# Altium footprint library Crystal.PcbLib: 185 footprints (part 12 of 12)
Each footprint in its own frame and in the unit in brackets; x right, y up, seen from the top. Pads: shape width x height; smd on the part's side, far side on the other; paste and mask are expansions set on the pad; w line width, h text height; cw(c..) or ccw(c..) is an arc to the next point about the centre after c.
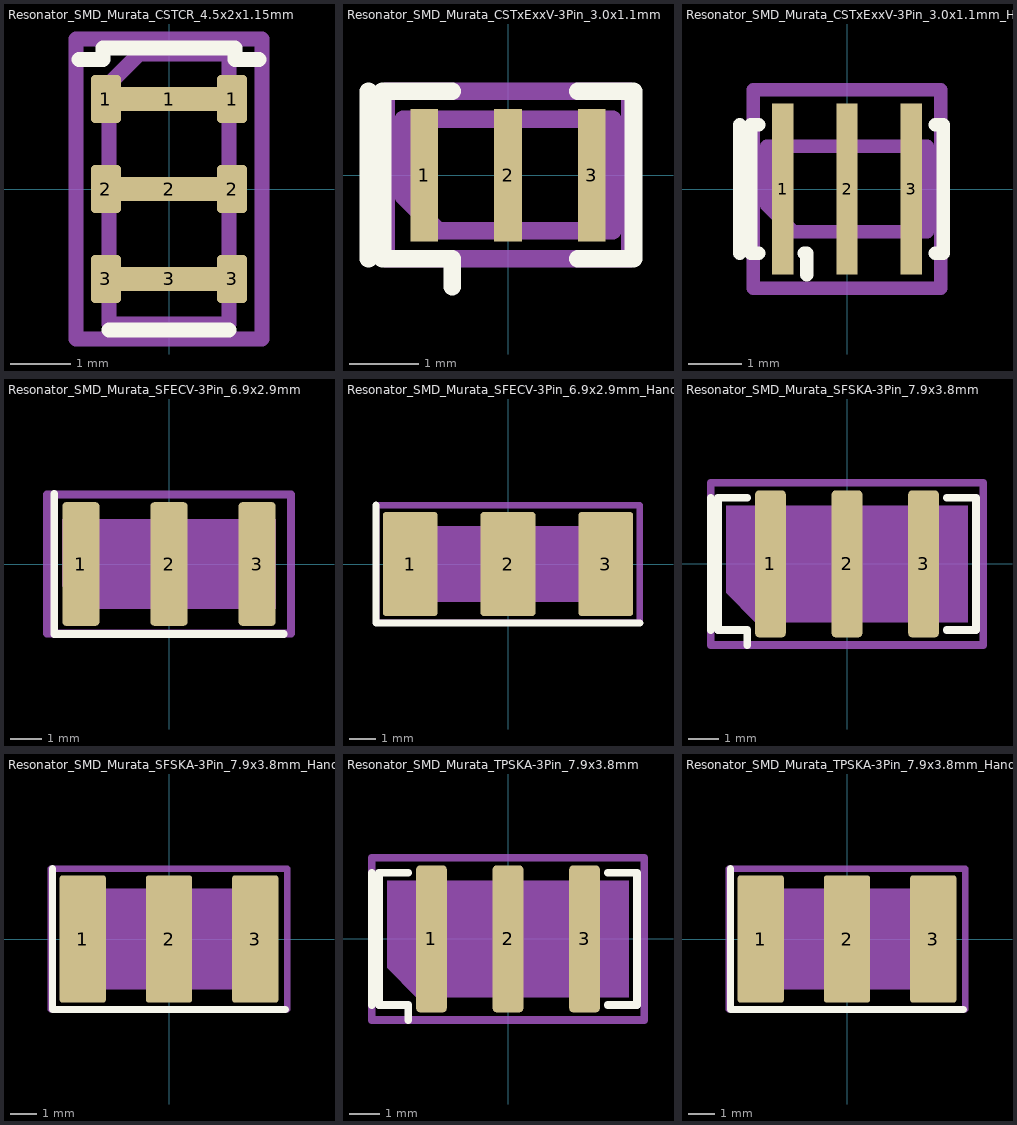
[diagram p11: the footprints below, top view; thin cyan lines are the x and y axes]

## Resonator_SMD_Murata_CSTCR_4.5x2x1.15mm [mm]
pads (9):
  rrect25% 0.5x0.8 smd: 1(-1.05,1.5) 1(1.05,1.5) 2(-1.05,0) 2(1.05,0) 3(-1.05,-1.5) 3(1.05,-1.5)
  rect 1.7x0.4 smd: 1(0,1.5) 2(0,0) 3(0,-1.5)
F.SilkS:
  lines w0.254: -1.5,2.16 -1.1,2.16 -1.1,2.35 1.1,2.35 1.1,2.16 1.5,2.16 ; -1,-2.35 1,-2.35
Top Assembly:
  lines w0.254: -1,-2.25 1,-2.25 1,2.25 -0.5,2.25 -1,1.75 -1,-2.25
  text "'.Designator'" at 0.84,-4.047 h1
Top Courtyard:
  lines w0.254: -1.55,-2.5 1.55,-2.5 1.55,2.5 -1.55,2.5 -1.55,-2.5
Top Designator:
  text ".Designator" at -7.618,-0.658 h1.52

## Resonator_SMD_Murata_CSTxExxV-3Pin_3.0x1.1mm [mm]
pads (3):
  rect 0.4x1.9 smd: 1(-1.2,0) 2(0,0) 3(1.2,0)
F.SilkS:
  lines w0.254: -2,-1.2 -2,-0.8 -2,1.2 ; -0.8,-1.6 -0.8,-1.2 -1.8,-1.2 -1.8,-0.8 -1.8,1.2 -0.8,1.2 ; 1,-1.2 1.8,-1.2 1.8,-0.8 1.8,1.2 1,1.2
Top Assembly:
  lines w0.254: -1.5,-0.3 -1,-0.8 1.5,-0.8 1.5,0.8 -1.5,0.8 -1.5,-0.3
  text "'.Designator'" at -2.318,-0.444 h0.6
Top Courtyard:
  lines w0.254: -1.75,-1.2 1.75,-1.2 1.75,1.2 -1.75,1.2 -1.75,-1.2
Top Designator:
  text ".Designator" at -7.598,-0.708 h1.52

## Resonator_SMD_Murata_CSTxExxV-3Pin_3.0x1.1mm_HandSoldering [mm]
pads (3):
  rect 0.4x3.2 smd: 1(-1.2,0) 2(0,0) 3(1.2,0)
F.SilkS:
  lines w0.254: -2,-1.2 -2,-0.8 -2,1.2 ; -1.65,-1.2 -1.8,-1.2 -1.8,-0.8 -1.8,1.2 -1.65,1.2 ; -0.8,-1.2 -0.75,-1.2 -0.75,-1.6 ; 1.65,-1.2 1.8,-1.2 1.8,-0.8 1.8,1.2 1.65,1.2
Top Assembly:
  lines w0.254: -1.5,-0.3 -1,-0.8 1.5,-0.8 1.5,0.8 -1.5,0.8 -1.5,-0.3
  text "'.Designator'" at -2.318,-0.444 h0.6
Top Courtyard:
  lines w0.254: -1.75,-1.85 1.75,-1.85 1.75,1.85 -1.75,1.85 -1.75,-1.85
Top Designator:
  text ".Designator" at -7.598,-0.508 h1.52

## Resonator_SMD_Murata_SFECV-3Pin_6.9x2.9mm [mm]
pads (3):
  rrect21% 1.2x4 smd: 1(-2.85,0) 2(0,0) 3(2.85,0)
F.SilkS:
  lines w0.254: -3.71,2.26 -3.71,-2.26 3.71,-2.26
Top Assembly:
  region: 3.45,-1.45 -2.725,-1.45 -3.45,-0.725 -3.45,1.45 3.45,1.45
  text "'.Designator'" at -4.047,-0.84 h1
Top Courtyard:
  lines w0.254: -3.95,-2.25 3.95,-2.25 3.95,2.25 -3.95,2.25 -3.95,-2.25
Top Designator:
  text ".Designator" at -7.677,-0.508 h1.52

## Resonator_SMD_Murata_SFECV-3Pin_6.9x2.9mm_HandSoldering [mm]
pads (3):
  rrect12% 2.1x4 smd: 1(-3.75,0) 2(0,0) 3(3.75,0)
F.SilkS:
  lines w0.254: -5.06,2.26 -5.06,-2.26 5.06,-2.26
Top Assembly:
  region: 3.45,-1.45 -2.725,-1.45 -3.45,-0.725 -3.45,1.45 3.45,1.45
  text "'.Designator'" at -4.047,-0.84 h1
Top Courtyard:
  lines w0.254: -5.05,-2.25 5.05,-2.25 5.05,2.25 -5.05,2.25 -5.05,-2.25
Top Designator:
  text ".Designator" at -7.618,-0.508 h1.52

## Resonator_SMD_Murata_SFSKA-3Pin_7.9x3.8mm [mm]
pads (3):
  rrect25% 1x4.8 smd: 1(-2.5,0) 2(0,0) 3(2.5,0)
F.SilkS:
  lines w0.254: -4.45,-2.16 -4.45,2.16 ; -3.26,-2.66 -3.26,-2.16 -4.21,-2.16 -4.21,2.16 -3.26,2.16 ; 3.26,-2.16 4.21,-2.16 4.21,2.16 3.26,2.16
Top Assembly:
  region: 3.95,-1.9 -3,-1.9 -3.95,-0.95 -3.95,1.9 3.95,1.9
  text "'.Designator'" at -4.047,-0.84 h1
Top Courtyard:
  lines w0.254: -4.45,-2.65 4.45,-2.65 4.45,2.65 -4.45,2.65 -4.45,-2.65
Top Designator:
  text ".Designator" at -7.618,-0.513 h1.52

## Resonator_SMD_Murata_SFSKA-3Pin_7.9x3.8mm_HandSoldering [mm]
pads (3):
  rrect14% 1.75x4.8 smd: 1(-3.25,0) 2(0,0) 3(3.25,0)
F.SilkS:
  lines w0.254: -4.385,2.66 -4.385,-2.66 4.385,-2.66
Top Assembly:
  region: 3.95,-1.9 -3,-1.9 -3.95,-0.95 -3.95,1.9 3.95,1.9
  text "'.Designator'" at -4.047,-0.84 h1
Top Courtyard:
  lines w0.254: -4.45,-2.65 4.45,-2.65 4.45,2.65 -4.45,2.65 -4.45,-2.65
Top Designator:
  text ".Designator" at -7.618,-0.508 h1.52

## Resonator_SMD_Murata_TPSKA-3Pin_7.9x3.8mm [mm]
pads (3):
  rrect25% 1x4.8 smd: 1(-2.5,0) 2(0,0) 3(2.5,0)
F.SilkS:
  lines w0.254: -4.45,-2.16 -4.45,2.16 ; -3.26,-2.66 -3.26,-2.16 -4.21,-2.16 -4.21,2.16 -3.26,2.16 ; 3.26,-2.16 4.21,-2.16 4.21,2.16 3.26,2.16
Top Assembly:
  region: 3.95,-1.9 -3,-1.9 -3.95,-0.95 -3.95,1.9 3.95,1.9
  text "'.Designator'" at -4.047,-0.84 h1
Top Courtyard:
  lines w0.254: -4.45,-2.65 4.45,-2.65 4.45,2.65 -4.45,2.65 -4.45,-2.65
Top Designator:
  text ".Designator" at -7.618,-0.513 h1.52

## Resonator_SMD_Murata_TPSKA-3Pin_7.9x3.8mm_HandSoldering [mm]
pads (3):
  rrect14% 1.75x4.8 smd: 1(-3.25,0) 2(0,0) 3(3.25,0)
F.SilkS:
  lines w0.254: -4.385,2.66 -4.385,-2.66 4.385,-2.66
Top Assembly:
  region: 3.95,-1.9 -3,-1.9 -3.95,-0.95 -3.95,1.9 3.95,1.9
  text "'.Designator'" at -4.047,-0.84 h1
Top Courtyard:
  lines w0.254: -4.45,-2.65 4.45,-2.65 4.45,2.65 -4.45,2.65 -4.45,-2.65
Top Designator:
  text ".Designator" at -7.618,-0.508 h1.52